# Altium footprint library mini_lathe_motor_monitor.PcbLib: 15 footprints
Each footprint in its own frame and in the unit in brackets; x right, y up, seen from the top. Pads: shape width x height; smd on the part's side, far side on the other; paste and mask are expansions set on the pad; w line width, h text height; cw(c..) or ccw(c..) is an arc to the next point about the centre after c.
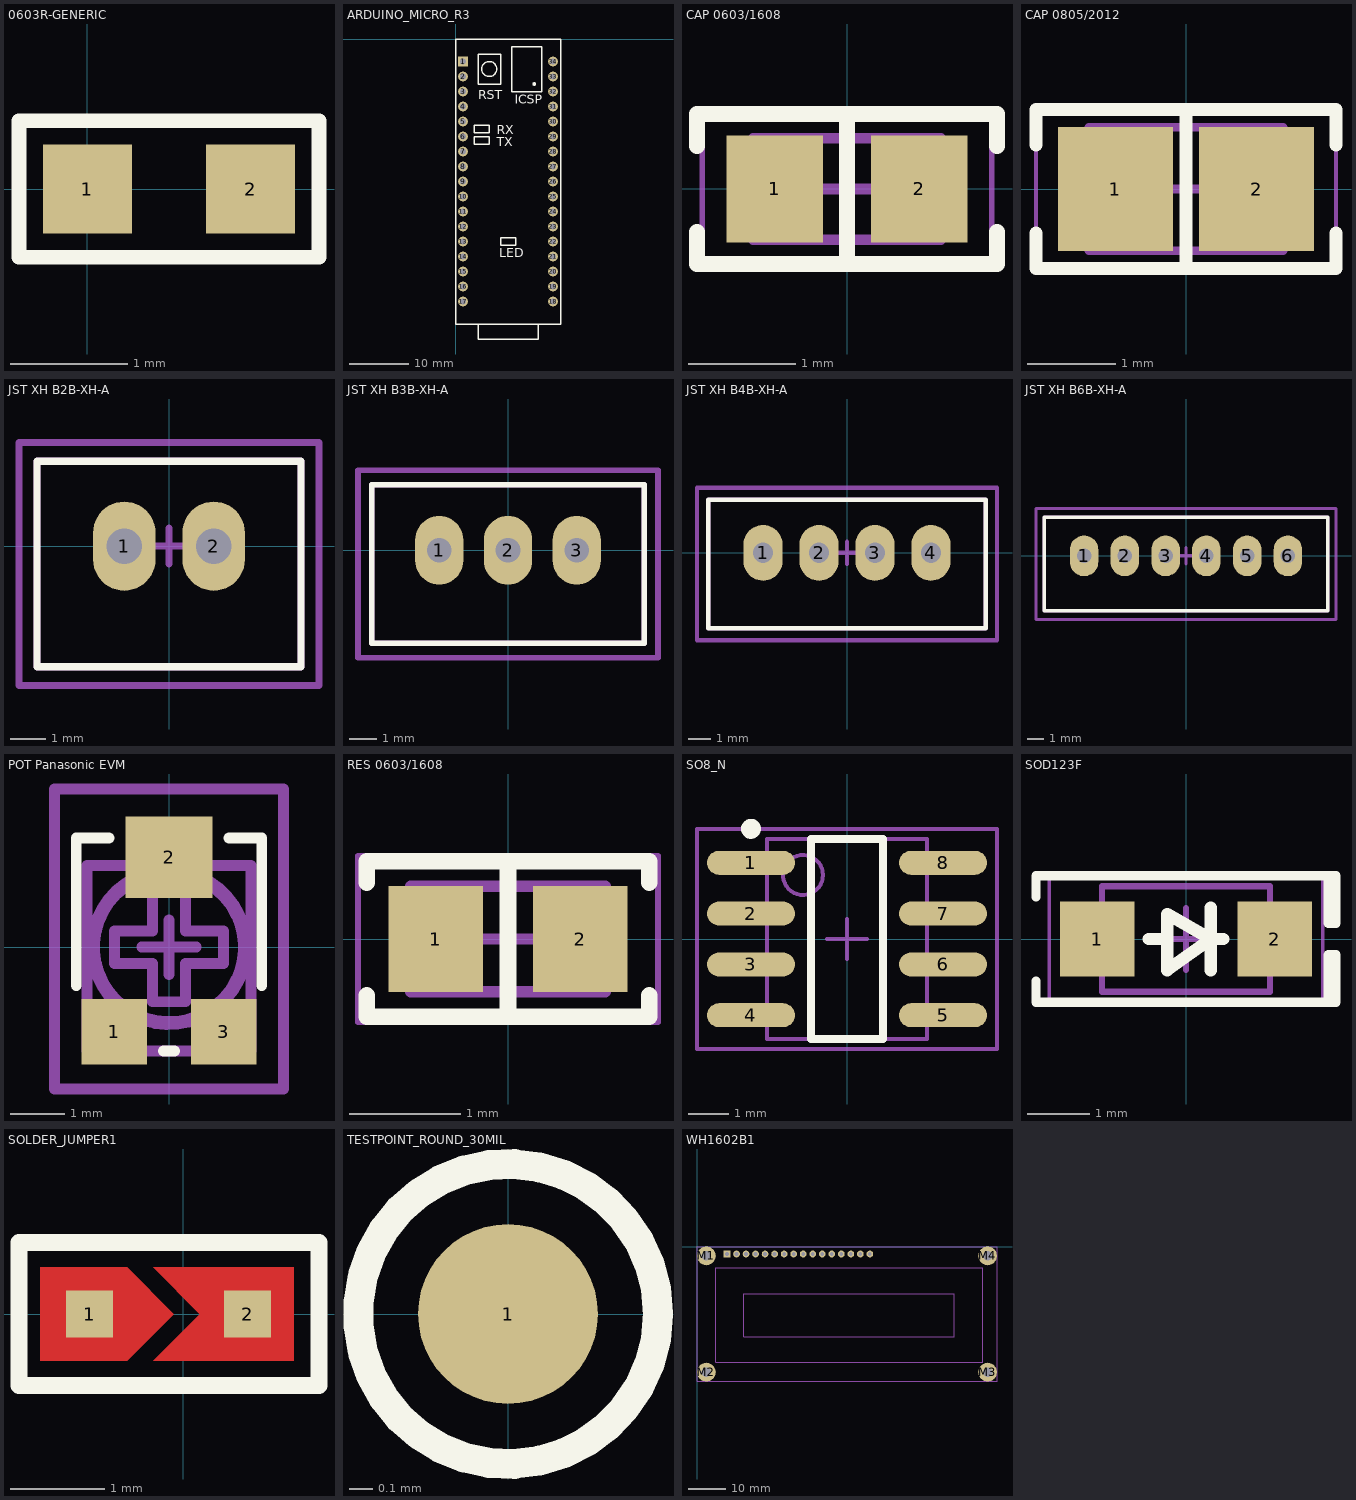
[diagram p0: the footprints below, top view; thin cyan lines are the x and y axes]

## 0603R-GENERIC [mil] "RESISTOR 0603"
height 94.49
pads (2):
  rect 30x30 smd: 1(0,0) 2(55,0)
Top Overlay:
  lines w5: -23,-23 78,-23 78,23 -23,23 -23,-23
3D body: height 16, standoff 15, extent 9.5,-10.5 14.5,-0.5
3D body: height 16, standoff 15, extent 17,-10.5 22,-0.5
3D body: height 16, standoff 15, extent 24.5,-10.5 29.5,-0.5
3D body: height 16, standoff 15, extent 43.5,0.5 48.5,10.5
3D body: height 16, standoff 15, extent 36,0.5 41,10.5
3D body: height 16, standoff 15, extent 13.5,0.5 18.5,10.5
3D body: height 19, standoff 0, extent -4,-15 5,15
3D body: height 19, standoff 0, extent 50,-15 59,15
3D body: height 19, standoff 18, extent 5,-13 50,13
3D body: height 18, standoff 0, extent -3,-14 58,14
3D body: height 16, standoff 15, extent 6,0.5 11,10.5
3D body: height 16, standoff 15, extent 21,0.5 26,10.5
3D body: height 16, standoff 15, extent 28.5,0.5 33.5,10.5
3D body: height 16, standoff 15, extent 32,-10.5 37,-0.5
3D body: height 16, standoff 15, extent 39.5,-10.5 44.5,-0.5

## ARDUINO_MICRO_R3 [mil] "Arduino Micro R3"
pads (34):
  rect 65x65 hole 42: 1(50,-150)
  round 65 hole 42: 2(50,-250) 3(50,-350) 4(50,-450) 5(50,-550) 6(50,-650) 7(50,-750) 8(50,-850) 9(50,-950) 10(50,-1050) 11(50,-1150) 12(50,-1250) 13(50,-1350) 14(50,-1450) 15(50,-1550) 16(50,-1650) 17(50,-1750) 18(650,-1750) 19(650,-1650) 20(650,-1550) 21(650,-1450) 22(650,-1350) 23(650,-1250) 24(650,-1150) 25(650,-1050) 26(650,-950) 27(650,-850) 28(650,-750) 29(650,-650) 30(650,-550) 31(650,-450) 32(650,-350) 33(650,-250) 34(650,-150)
Top Overlay:
  circle w12: c525,-300 r7
  circle w10: c225,-200 r50
  lines w10: 150,-1900 150,-2000 550,-2000 550,-1900 ; 0,-1900 0,0 700,0 700,-1900 0,-1900 ; 125,-700 225,-700 225,-650 125,-650 125,-700 ; 125,-625 125,-575 225,-575 225,-625 125,-625 ; 150,-300 150,-100 300,-100 300,-300 150,-300 ; 300,-1375 400,-1375 400,-1325 300,-1325 300,-1375 ; 375,-350 375,-50 575,-50 575,-350 375,-350
  text "RX" at 275,-635 h60
  text "ICSP" at 393.7,-433.07 h60
  text "RST" at 150,-400 h60
  text "TX" at 275,-715 h60
  text "LED" at 290,-1455 h60

## CAP 0603/1608 [mm] "Chip Capacitor, 2-Leads, Body 1.60x0.80mm, IPC Medium Density"
height 0.89
pads (2):
  rect 0.9x1 smd: 1(-0.675,0) 2(0.675,0)
Top Overlay:
  lines w0.15: -1.4,-0.4 -1.4,-0.7 1.4,-0.7 1.4,-0.4 ; -1.4,0.4 -1.4,0.7 1.4,0.7 1.4,0.4 ; 0,-0.7 0,0.7
Mechanical 13:
  lines w0.1: -0.875,-0.475 -0.875,0.475 0.875,0.475 0.875,-0.475 -0.875,-0.475
Mechanical 15:
  lines w0.05: -1.35,-0.75 -1.35,0.75 1.35,0.75 1.35,-0.75 -1.35,-0.75
  lines w0.1: -0.475,0 0.475,0 ; 0,-0.475 0,0.475
3D body "0603 cap.STEP": height 0.82, standoff 0, extent -0.8,-0.412 0.8,0.412

## CAP 0805/2012 [mm] "Chip Capacitor, 2-Leads, Body 2.00x1.20mm, IPC Medium Density"
height 1.15
pads (2):
  rect 1.3x1.4 smd: 1(-0.8,0) 2(0.8,0)
Top Overlay:
  lines w0.15: -1.7,-0.5 -1.7,-0.9 1.7,-0.9 1.7,-0.5 ; -1.7,0.5 -1.7,0.9 1.7,0.9 1.7,0.5 ; 0,-0.9 0,0.9
Mechanical 13:
  lines w0.1: -1.1,-0.7 -1.1,0.7 1.1,0.7 1.1,-0.7 -1.1,-0.7
Mechanical 15:
  lines w0.05: -1.7,-0.95 -1.7,0.95 1.7,0.95 1.7,-0.95 -1.7,-0.95
  lines w0.1: -0.5,0 0.5,0 ; 0,-0.5 0,0.5
3D body "0805 cap.STEP": height 1.26, standoff -0.02, extent -1,-0.637 1,0.637

## JST XH B2B-XH-A [mm]
height 7
pads (2):
  oval 1.75x2.5 hole 1: 1(-1.25,0) 2(1.25,0)
Top Overlay:
  lines w0.2: -3.7,-3.375 3.7,-3.375 3.7,2.375 -3.7,2.375 -3.7,-3.375
Mechanical 1:
  lines w0.2: -3.7,-3.375 -3.7,2.375 3.7,2.375 3.7,-3.375 -3.7,-3.375
Mechanical 15:
  lines w0.2: -0.5,0 0.5,0 ; 0,-0.5 0,0.5 ; -4.2,-3.9 4.2,-3.9 4.2,2.9 -4.2,2.9 -4.2,-3.9
3D body "JST B2B-XH-A.STEP": height 7, standoff -3.4, extent -3.7,-3.375 3.7,2.375

## JST XH B3B-XH-A [mm]
height 7
pads (3):
  oval 1.75x2.5 hole 0.9: 1(-2.5,0) 2(0,0) 3(2.5,0)
Top Overlay:
  lines w0.2: -4.95,-3.375 -4.95,2.375 4.95,2.375 4.95,-3.375 -4.95,-3.375
Mechanical 1:
  lines w0.2: -4.95,-3.375 4.95,-3.375 4.95,2.375 -4.95,2.375 -4.95,-3.375
Mechanical 15:
  lines w0.2: -0.5,0 0.5,0 ; 0,-0.5 0,0.5 ; -5.45,-3.9 -5.45,2.9 5.45,2.9 5.45,-3.9 -5.45,-3.9
3D body "JST B3B-XH-A.STEP": height 7, standoff -3.4, extent -4.95,-3.375 4.95,2.375

## JST XH B4B-XH-A [mm]
height 7
pads (4):
  oval 1.75x2.5 hole 0.9: 1(-3.75,0) 2(-1.25,0) 3(1.25,0) 4(3.75,0)
Top Overlay:
  lines w0.2: -6.2,-3.375 -6.2,2.375 6.2,2.375 6.2,-3.375 -6.2,-3.375
Mechanical 1:
  lines w0.2: -6.2,-3.375 6.2,-3.375 6.2,2.375 -6.2,2.375 -6.2,-3.375
Mechanical 15:
  lines w0.2: -0.5,0 0.5,0 ; 0,-0.5 0,0.5 ; -6.7,-3.9 -6.7,2.9 6.7,2.9 6.7,-3.9 -6.7,-3.9
3D body "JST B4B-XH-A.STEP": height 7, standoff -3.4, extent -6.2,-3.375 6.2,2.375

## JST XH B6B-XH-A [mm]
height 7
pads (6):
  oval 1.75x2.5 hole 0.9: 1(-6.25,0) 2(-3.75,0) 3(-1.25,0) 4(1.25,0) 5(3.75,0) 6(6.25,0)
Top Overlay:
  lines w0.2: -8.7,-3.375 -8.7,2.375 8.7,2.375 8.7,-3.375 -8.7,-3.375
Mechanical 1:
  lines w0.2: -8.7,-3.375 8.7,-3.375 8.7,2.375 -8.7,2.375 -8.7,-3.375
Mechanical 15:
  lines w0.2: -0.5,0 0.5,0 ; 0,-0.5 0,0.5 ; -9.2,-3.9 -9.2,2.9 9.2,2.9 9.2,-3.9 -9.2,-3.9
3D body "JST B6B-XH-A.STEP": height 7, standoff -3.4, extent -8.7,-3.375 8.7,2.375

## POT Panasonic EVM [mm] "Panasonic EVM3Y 3.45mm x 3.10mm x 1.55mm"
height 1.55
pads (3):
  rect 1.2x1.2 smd: 1(-1,-1.55) 3(1,-1.55)
  rect 1.6x1.5 smd: 2(0,1.65)
Top Overlay:
  lines w0.2: -1.7,-0.7 -1.7,2 -1.1,2 ; -0.1,-1.9 0.1,-1.9 ; 1.1,2 1.7,2 1.7,-0.7
Mechanical 1:
  circle w0.254: c0,0 r1.393
  lines w0.2: -1.5,-1.9 -1.5,1.5 1.5,1.5 1.5,-1.9 -1.5,-1.9 ; -1,-0.3 -0.3,-0.3 -0.3,-1 0.3,-1 0.3,-0.3 1,-0.3 1,0.3 0.3,0.3 0.3,1 -0.3,1 -0.3,0.3 -1,0.3 -1,-0.3
Mechanical 15:
  lines w0.2: -0.5,0 0.5,0 ; 0,-0.5 0,0.5 ; -2.1,-2.6 2.1,-2.6 2.1,2.9 -2.1,2.9 -2.1,-2.6
3D body "Panasonic EVM.STEP": height 1.55, standoff 0, extent -1.55,-1.9 1.55,1.85

## RES 0603/1608 [mm] "Chip Resistor, 2-Leads, Body 1.60x0.80mm, IPC Medium Density"
height 0.45
pads (2):
  rect 0.85x0.95 smd: 1(-0.65,0) 2(0.65,0)
Top Overlay:
  lines w0.15: -1.27,-0.508 -1.27,-0.7 1.27,-0.7 1.27,-0.508 ; -1.27,0.508 -1.27,0.7 1.27,0.7 1.27,0.508 ; 0,-0.7 0,0.7
Mechanical 13:
  lines w0.1: -0.875,-0.475 -0.875,0.475 0.875,0.475 0.875,-0.475 -0.875,-0.475
Mechanical 15:
  lines w0.05: -1.35,-0.75 -1.35,0.75 1.35,0.75 1.35,-0.75 -1.35,-0.75
  lines w0.1: -0.475,0 0.475,0 ; 0,-0.475 0,0.475
3D body "0603 resistor.STEP": height 0.45, standoff 0, extent -0.8,-0.4 0.8,0.4

## SO8_N [mm] "SOIC, 8-Leads, Body 4.9x3.9mm, Pitch 1.27mm, IPC Medium Density"
height 1.75
pads (8):
  oval 2.2x0.6 smd: 1(-2.4,1.905) 2(-2.4,0.635) 3(-2.4,-0.635) 4(-2.4,-1.905) 5(2.4,-1.905) 6(2.4,-0.635) 7(2.4,0.635) 8(2.4,1.905)
Top Overlay:
  circle w0.25: c-2.4,2.755 r0.125
  lines w0.2: -0.9,-2.5 0.9,-2.5 0.9,2.5 -0.9,2.5 -0.9,-2.5
Mechanical 13:
  circle w0.1: c-1.1,1.6 r0.5
  lines w0.1: -2,-2.5 2,-2.5 2,2.5 -2,2.5 -2,-2.5
Mechanical 15:
  lines w0.1: -0.5,0 0.5,0 ; 0,-0.5 0,0.5 ; -3.75,-2.75 3.75,-2.75 3.75,2.75 -3.75,2.75 -3.75,-2.75
3D body: height 1.75, standoff 0, extent -2,-2.5 2,2.5

## SOD123F [mm] "SODFL, 2-Leads, Body 1.60x3.50mm, IPC Medium Density"
height 1
pads (2):
  rect 1.2x1.2 smd: 1(-1.43,0) 2(1.43,0)
Top Overlay:
  lines w0.15: -2.413,-0.675 -2.413,-1.016 2.286,-1.016 ; -2.413,0.675 -2.413,1.016 2.286,1.016 ; 2.286,-1.016 2.286,-0.254 2.413,-0.254 2.413,-1.016 2.286,-1.016 ; 2.286,1.016 2.413,1.016 2.413,0.254 2.286,0.254 2.286,1.016
  lines w0.2: -0.6,0 -0.3,0 ; 0.4,-0.5 0.4,0.5 ; 0.6,0 0.4,0 ; 0.4,0 -0.3,-0.5 -0.3,0.4 0.4,0
Mechanical 13:
  lines w0.1: -1.35,-0.85 1.35,-0.85 1.35,0.85 -1.35,0.85 -1.35,-0.85
Mechanical 15:
  lines w0.05: -2.2,-1 2.2,-1 2.2,1 -2.2,1 -2.2,-1
  lines w0.1: -0.5,0 0.5,0 ; 0,-0.5 0,0.5
3D body "SOD123F.STEP": height 1.1, standoff 0, extent -1.75,-0.8 1.75,0.8

## SOLDER_JUMPER1 [mm]
height 5.08
pads (2):
  rect 0.5x0.5 smd: 1(-1,0) 2(0.686,0)
Top Layer:
  region: -0.322,0.5 0.178,0 -0.322,-0.5 1.178,-0.5 1.178,0.5
  region: -0.1,0 -0.6,0.5 -1.525,0.5 -1.525,-0.5 -0.6,-0.5
Top Overlay:
  lines w0.178: -1.753,-0.762 1.448,-0.762 1.448,0.762 -1.753,0.762 -1.753,-0.762
Top Solder:
  region: -1.6,0.6 1.275,0.6 1.275,-0.6 -1.6,-0.6

## TESTPOINT_ROUND_30MIL [mil]
height 94.49
pads (1):
  round 30 smd paste-30: 1(0,0)
Top Overlay:
  circle w5: c0,0 r25

## WH1602B1 [mm]
pads (20):
  rect 1.8x1.8 hole 1: 1(8,-2)
  round 1.8 hole 1: 2(10.54,-2) 3(13.08,-2) 4(15.62,-2) 5(18.16,-2) 6(20.7,-2) 7(23.24,-2) 8(25.78,-2) 9(28.32,-2) 10(30.86,-2) 11(33.4,-2) 12(35.94,-2) 13(38.48,-2) 14(41.02,-2) 15(43.56,-2) 16(46.1,-2)
  round 5 hole 2.5: M1(2.5,-2.5) M2(2.5,-33.5) M3(77.5,-33.5) M4(77.5,-2.5)
Mechanical 1:
  lines w0.254: 0,-36 0,0 80,0 80,-36 0,-36 ; 4.95,-30.9 76.15,-30.9 76.15,-5.7 4.95,-5.7 4.95,-30.9 ; 12.45,-24.05 12.45,-12.55 68.65,-12.55 68.65,-24.05 12.45,-24.05
  text "0123456789012345" at 13,-22.5 h3.6
  text "0123456789012345" at 13,-16.496 h3.6